# Altium schematic symbol library Schlib1.SchLib: 3 symbols
Pins are listed as number, name and electrical type; pins without a type are passive.

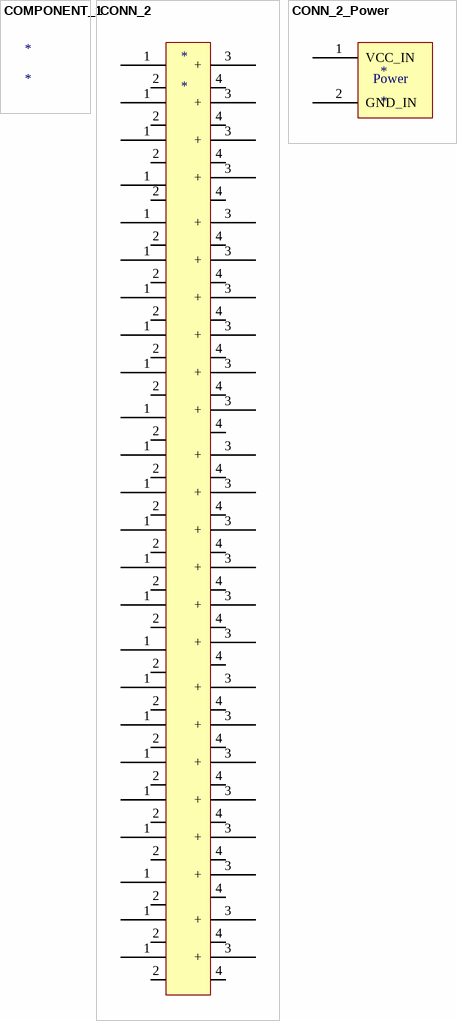
[diagram p0: symbols COMPONENT_1 to CONN_2_Power]

## COMPONENT_1
designator *

## CONN_2
designator *
pins: 1 VCC_IN, 1 VCC_IN, 1 VCC_IN, 1 VCC_IN, 1 VCC_IN, 1 VCC_IN, 1 VCC_IN, 1 VCC_IN, 1 VCC_IN, 1 VCC_IN, 1 VCC_IN, 1 VCC_IN, 1 VCC_IN, 1 VCC_IN, 1 VCC_IN, 1 VCC_IN, 1 VCC_IN, 1 VCC_IN, 1 VCC_IN, 1 VCC_IN, 1 VCC_IN, 1 VCC_IN, 1 VCC_IN, 1 VCC_IN, 2 GND_IN, 2 GND_IN, 2 GND_IN, 2 GND_IN, 2 GND_IN, 2 GND_IN, 2 GND_IN, 2 GND_IN, 2 GND_IN, 2 GND_IN, 2 GND_IN, 2 GND_IN, 2 GND_IN, 2 GND_IN, 2 GND_IN, 2 GND_IN, 2 GND_IN, 2 GND_IN, 2 GND_IN, 2 GND_IN, 2 GND_IN, 2 GND_IN, 2 GND_IN, 2 GND_IN, 3 +, 3 +, 3 +, 3 +, 3 +, 3 +, 3 +, 3 +, 3 +, 3 +, 3 +, 3 +, 3 +, 3 +, 3 +, 3 +, 3 +, 3 +, 3 +, 3 +, 3 +, 3 +, 3 +, 3 +, 4 GND_Out, 4 GND_Out, 4 GND_Out, 4 GND_Out, 4 GND_Out, 4 GND_Out, 4 GND_Out, 4 GND_Out, 4 GND_Out, 4 GND_Out, 4 GND_Out, 4 GND_Out, 4 GND_Out, 4 GND_Out, 4 GND_Out, 4 GND_Out, 4 GND_Out, 4 GND_Out, 4 GND_Out, 4 GND_Out, 4 GND_Out, 4 GND_Out, 4 GND_Out, 4 GND_Out

## CONN_2_Power
designator *
pins: 1 VCC_IN, 2 GND_IN
text: Power